# EAGLE library part PCA9539 (library FaBo-Motor)
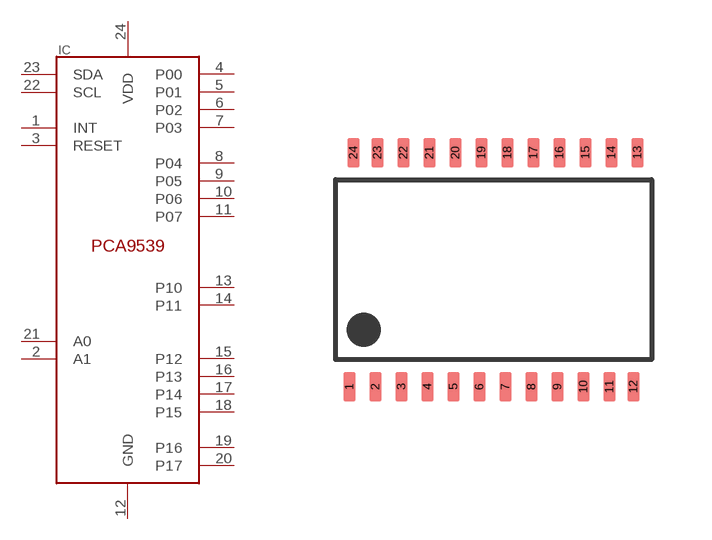
[diagram p3: symbol with the pads of PCA9539; footprint PCA9539]

Designator prefix IC

## PCA9539  [PCA9539]
1  INT
2  A1
3  RESET
4  P00
5  P01
6  P02
7  P03
8  P04
9  P05
10  P06
11  P07
12  GND
13  P10
14  P11
15  P12
16  P13
17  P14
18  P15
19  P16
20  P17
21  A0
22  SCL
23  SDA
24  VDD

## Footprint PCA9539 (pad centres in mm)
smd 0.3 x 0.75: 1 -3.6,-2.93; 2 -2.95,-2.93; 3 -2.3,-2.93; 4 -1.65,-2.93; 5 -1,-2.93; 6 -0.35,-2.93; 7 0.3,-2.93; 8 0.95,-2.93; 9 1.6,-2.93; 10 2.25,-2.93; 11 2.9,-2.93; 12 3.5,-2.93; 13 3.6,2.92; 14 2.95,2.92; 15 2.3,2.92; 16 1.65,2.92; 17 1,2.92; 18 0.35,2.92; 19 -0.3,2.92; 20 -0.95,2.92; 21 -1.6,2.92; 22 -2.25,2.92; 23 -2.9,2.92; 24 -3.5,2.92